# EAGLE library part ALEX-PARTS_SN76489AN (library squareinator2)
TI SN76489AN Sound Generator
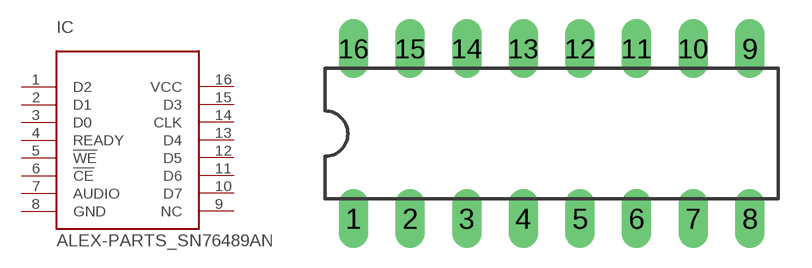
[diagram p2: symbol with the pads of ALEX-PARTS_DIL16; footprint ALEX-PARTS_DIL16]

Designator prefix IC

## ALEX-PARTS_SN76489AN  [ALEX-PARTS_DIL16]
1  D2  in
2  D1  in
3  D0  in
4  READY  out
5  !WE  in
6  !CE  in
7  AUDIO  out
8  GND  pwr
9  NC  nc
10  D7  in
11  D6  in
12  D5  in
13  D4  in
14  CLK  in
15  D3  in
16  VCC  in

## Footprint ALEX-PARTS_DIL16 (pad centres in mm)
Dual In Line Package
drill 0.813 long: 1 -8.89,-3.81; 2 -6.35,-3.81; 3 -3.81,-3.81; 4 -1.27,-3.81; 5 1.27,-3.81; 6 3.81,-3.81; 7 6.35,-3.81; 8 8.89,-3.81; 9 8.89,3.81; 10 6.35,3.81; 11 3.81,3.81; 12 1.27,3.81; 13 -1.27,3.81; 14 -3.81,3.81; 15 -6.35,3.81; 16 -8.89,3.81